# Altium footprint library Amphenol.PcbLib: 2 footprints
Each footprint in its own frame and in the unit in brackets; x right, y up, seen from the top. Pads: shape width x height; smd on the part's side, far side on the other; paste and mask are expansions set on the pad; w line width, h text height; cw(c..) or ccw(c..) is an arc to the next point about the centre after c.
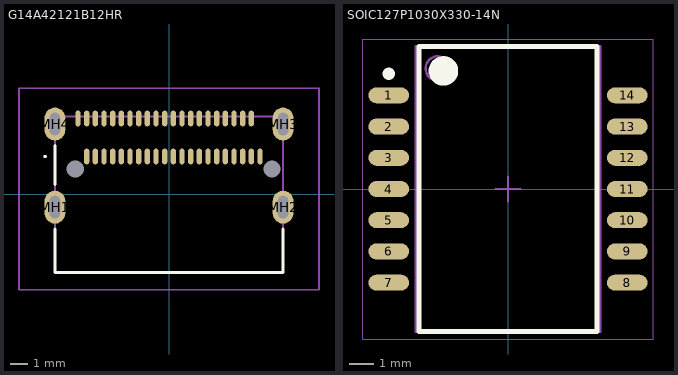
[diagram p0: the footprints below, top view; thin cyan lines are the x and y axes]

## G14A42121B12HR [mm]
pads (48):
  rrect100% 0.31x0.91 smd: A1(-4.75,2.19) A2(-4.25,2.19) A3(-3.75,2.19) A4(-3.25,2.19) A5(-2.75,2.19) A6(-2.25,2.19) A7(-1.75,2.19) A8(-1.25,2.19) A9(-0.75,2.19) A10(-0.25,2.19) A11(0.25,2.19) A12(0.75,2.19) A13(1.25,2.19) A14(1.75,2.19) A15(2.25,2.19) A16(2.75,2.19) A17(3.25,2.19) A18(3.75,2.19) A19(4.25,2.19) A20(4.75,2.19) A21(5.25,2.19) B1(-5.25,4.38) B2(-4.75,4.38) B3(-4.25,4.38) B4(-3.75,4.38) B5(-3.25,4.38) B6(-2.75,4.38) B7(-2.25,4.38) B8(-1.75,4.38) B9(-1.25,4.38) B10(-0.75,4.38) B11(-0.25,4.38) B12(0.25,4.38) B13(0.75,4.38) B14(1.25,4.38) B15(1.75,4.38) B16(2.25,4.38) B17(2.75,4.38) B18(3.25,4.38) B19(3.75,4.38) B20(4.25,4.38) B21(4.75,4.38)
  oval 1.2x1.9 hole 0.6 slot 1.3 at 90 deg: MH1(-6.58,-0.73) MH2(6.58,-0.73) MH3(6.58,4.06) MH4(-6.58,4.06)
  round 0.5 hole 1 unplated: MH5(-5.41,1.47) MH6(5.94,1.47)
Top Overlay:
  lines w0.1: -7.2,2.19 cw(c-7.15,2.19) -7.1,2.19 cw(c-7.15,2.19) -7.2,2.19
  lines w0.2: -6.575,-2 -6.575,-4.5 6.575,-4.5 6.575,-2 ; -6.575,0.6 -6.575,2.8
Mechanical 13:
  lines w0.1: -6.575,-4.5 6.575,-4.5 6.575,4.5 -6.575,4.5 -6.575,-4.5
Mechanical 15:
  lines w0.1: -8.652,-5.5 8.652,-5.5 8.652,6.132 -8.652,6.132 -8.652,-5.5
3D body "g14a421x1bxxhr.STEP": height 3.92, standoff -2.03, extent -6.725,-4.5 6.725,4.57

## SOIC127P1030X330-14N [mm] "SOIC, 14-Leads, Body 11.36x7.52mm, Pitch 1.27mm, IPC Medium Density"
height 3.3
pads (14):
  oval 1.65x0.65 smd: 1(-4.85,3.81) 2(-4.85,2.54) 3(-4.85,1.27) 4(-4.85,0) 5(-4.85,-1.27) 6(-4.85,-2.54) 7(-4.85,-3.81) 8(4.85,-3.81) 9(4.85,-2.54) 10(4.85,-1.27) 11(4.85,0) 12(4.85,1.27) 13(4.85,2.54) 14(4.85,3.81)
Top Overlay:
  circle w0.6: c-2.625,4.8 r0.3
  circle w0.25: c-4.85,4.685 r0.125
  lines w0.2: -3.625,-5.8 3.625,-5.8 3.625,5.8 -3.625,5.8 -3.625,-5.8
Mechanical 13:
  circle w0.1: c-2.85,4.9 r0.5
  lines w0.1: -3.75,-5.8 3.75,-5.8 3.75,5.8 -3.75,5.8 -3.75,-5.8
Mechanical 15:
  lines w0.05: -5.9,-6.1 5.9,-6.1 5.9,6.1 -5.9,6.1 -5.9,-6.1
  lines w0.1: -0.5,0 0.5,0 ; 0,-0.5 0,0.5
3D body "SOIC127P1030X330-14N.step": height 3.3, standoff 0, extent -5.16,-5.8 5.16,5.8
3D body "NPA-1.STEP": height 9.3, standoff 3.3, extent -2.825,-4.745 0.175,-1.745
3D body "NPA-1.STEP": height 9.3, standoff 3.3, extent -0.175,1.745 2.825,4.745